# Altium footprint library L15.PcbLib: 3 footprints
Each footprint in its own frame and in the unit in brackets; x right, y up, seen from the top. Pads: shape width x height; smd on the part's side, far side on the other; paste and mask are expansions set on the pad; w line width, h text height; cw(c..) or ccw(c..) is an arc to the next point about the centre after c.
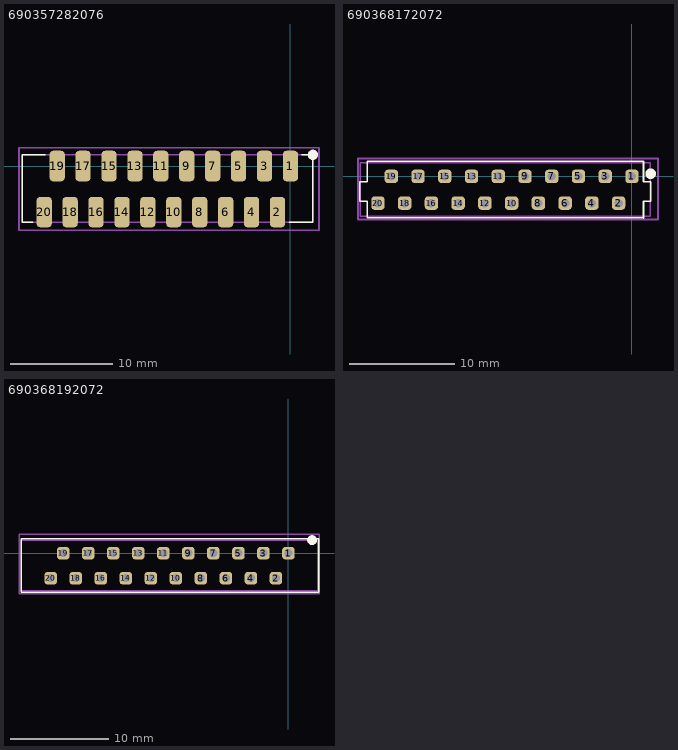
[diagram p0: the footprints below, top view; thin cyan lines are the x and y axes]

## 690357282076 [mm] "WR-MM series 20 pin male conector"
pads (20):
  rrect50% 1.5x3 smd mask+0.07: 1(0,0) 2(-1.27,-4.51) 3(-2.54,0) 4(-3.81,-4.51) 5(-5.08,0) 6(-6.35,-4.51) 7(-7.62,0) 8(-8.89,-4.51) 9(-10.16,0) 10(-11.43,-4.51) 11(-12.7,0) 12(-13.97,-4.51) 13(-15.24,0) 14(-16.51,-4.51) 15(-17.78,0) 16(-19.05,-4.51) 17(-20.32,0) 18(-21.59,-4.51) 19(-22.86,0) 20(-24.13,-4.51)
Top Overlay:
  circle w0.5: c2.2,1.1 r0.25
  lines w0.15: -25.23,-5.5 -26.3,-5.5 -26.3,1.1 -24.03,1.09 ; -0.1,-5.5 1.6,-5.5 2.2,-5.5 2.2,1.1 1.1,1.1
Assembly Top:
  lines w0.15: -26.3,-5.5 2.2,-5.5 2.2,1.1 -26.3,1.1 -26.3,-5.5
Courtyard Top:
  lines w0.15: -26.6,-6.3 2.8,-6.3 2.8,1.8 -26.6,1.8 -26.6,-6.3
3D body "690357282076 (rev1).stp": height 5.15, standoff 0, extent -26.28,-5.455 2.15,1.045

## 690368172072 [mm] "WR-MM series  20 pin female connector"
pads (20):
  rrect50% 1.27x1.27 hole 0.8 mask+0.07: 1(0,0) 2(-1.27,-2.54) 3(-2.54,0) 4(-3.81,-2.54) 5(-5.08,0) 6(-6.35,-2.54) 7(-7.62,0) 8(-8.89,-2.54) 9(-10.16,0) 10(-11.43,-2.54) 11(-12.7,0) 12(-13.97,-2.54) 13(-15.24,0) 14(-16.51,-2.54) 15(-17.78,0) 16(-19.05,-2.54) 17(-20.32,0) 18(-21.59,-2.54) 19(-22.86,0) 20(-24.13,-2.54)
Top Overlay:
  circle w0.5: c1.775,0.25 r0.25
  lines w0.15: 1.095,-3.96 1.095,-2.36 1.795,-2.36 1.795,-0.51 1.095,-0.51 1.095,1.44 ; 1.095,-3.95 -25.15,-3.95 -25.15,-2.35 -25.85,-2.35 -25.85,-0.5 -25.15,-0.5 -25.15,1.45 1.095,1.45
Assembly Top:
  lines w0.15: -25.825,-3.8 -25.825,1.3 1.725,1.3 1.725,-3.8 -25.825,-3.8
Courtyard Top:
  lines w0.15: -26.025,-4.1 -26.025,1.7 2.475,1.7 2.475,0.225 2.475,-4.1 -26.025,-4.1
3D body "690368172072 (rev1).stp": height 5.8, standoff -3.1, extent -25.75,-3.7 1.65,1.3

## 690368192072 [mm] "WR-MM series  20 pin female connector"
pads (20):
  rrect50% 1.27x1.27 hole 0.8 mask+0.07: 1(0,0) 2(-1.27,-2.54) 3(-2.54,0) 4(-3.81,-2.54) 5(-5.08,0) 6(-6.35,-2.54) 7(-7.62,0) 8(-8.89,-2.54) 9(-10.16,0) 10(-11.43,-2.54) 11(-12.7,0) 12(-13.97,-2.54) 13(-15.24,0) 14(-16.51,-2.54) 15(-17.78,0) 16(-19.05,-2.54) 17(-20.32,0) 18(-21.59,-2.54) 19(-22.86,0) 20(-24.13,-2.54)
Top Overlay:
  circle w0.5: c2.4,1.325 r0.25
  lines w0.15: -27.125,-3.95 3.05,-3.95 3.05,-3.615 3.05,0.745 3.05,1.45 -27.125,1.45 -27.125,0.775 -27.125,-1.075 -27.125,-3.95
Assembly Top:
  lines w0.15: -27.125,-3.8 2.95,-3.8 2.95,1.3 -27.125,1.3 -27.125,-3.8
Courtyard Top:
  lines w0.15: -27.35,-4.1 3.1,-4.1 3.1,0.85 3.1,1.9 -27.35,1.9 -27.35,-4.1
3D body "690368192072 (rev1) (1).stp": height 5.8, standoff -3.1, extent -27.05,-3.7 2.95,1.3